# EAGLE library part MOTOR_N20_BOTTON_L (library Motor N20)
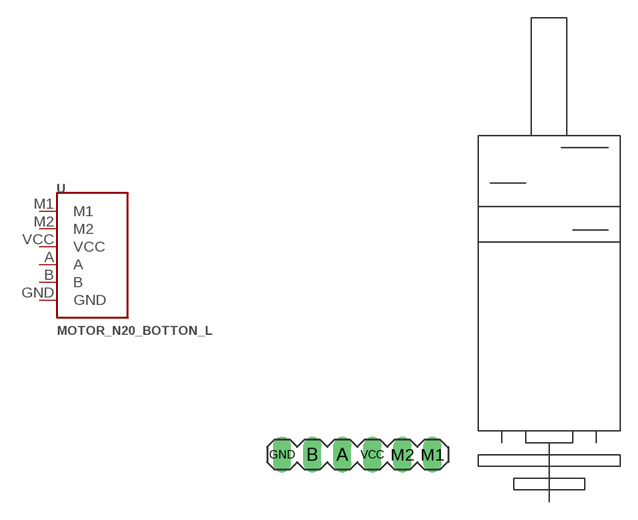
[diagram p3: symbol with the pads of MOTOR_N20_BOTTON_R; footprint MOTOR_N20_BOTTON_R]

Designator prefix -

## MOTOR_N20_BOTTON_L  [MOTOR_N20_BOTTON_R]
A  A
B  B
GND  GND
M1  M1
M2  M2
VCC  VCC

## Footprint MOTOR_N20_BOTTON_R (pad centres in mm)
drill 1.016 long: A -17.51,-2; B -20.05,-2; GND -22.59,-2; M1 -9.89,-2; M2 -12.43,-2; VCC -14.97,-2